# Altium integrated library Diodes - TVS.IntLib: 5379 symbols (part 36 of 122)
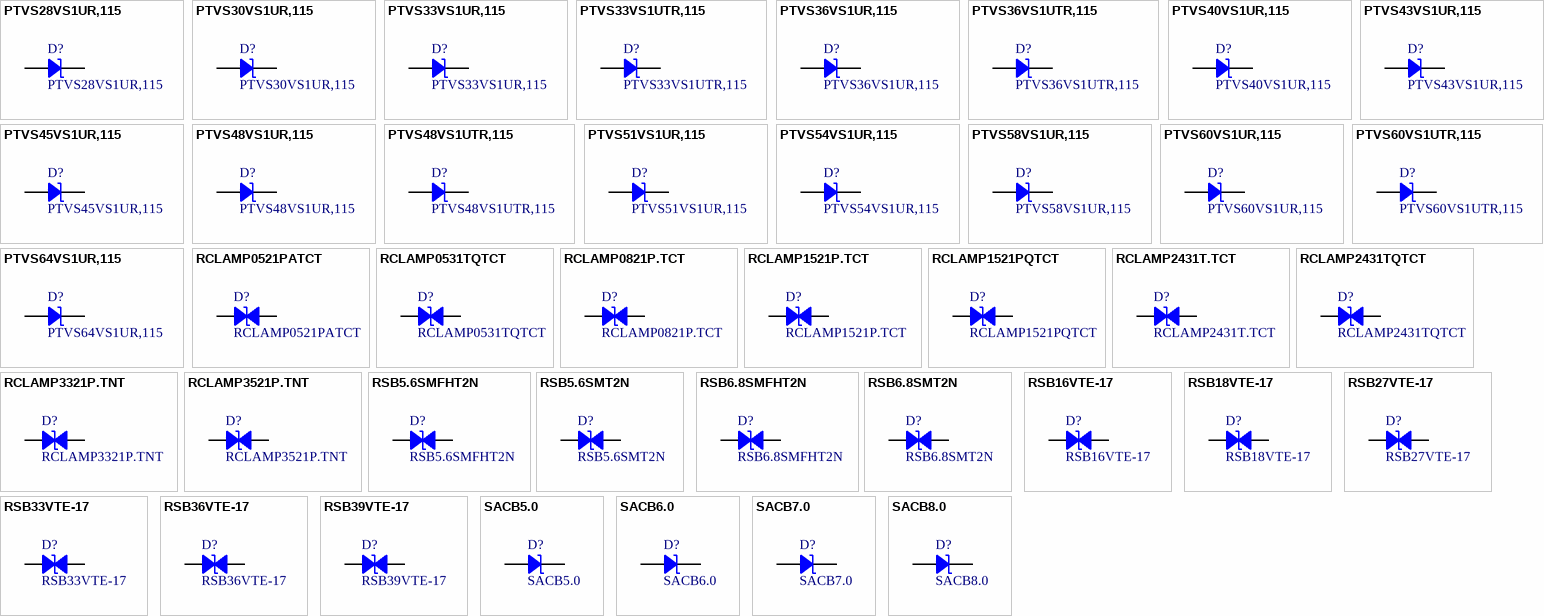
[diagram p169: symbols PTVS28VS1UR,115 to SACB8.0]

## RSB36VTE-17
designator D?
TVS DIODE 27V UMD2; Manufacturer: Rohm Semiconductor; Bidirectional Channels: 1; Capacitance @ Frequency: 30pF @ 1MHz; Power Line Protection: No; Type: Zener; Voltage - Breakdown (Min): 32.4V; Part Number: RSB36VTE-17; Applications: General Purpose; ComponentLink1Description: Datasheet; ComponentLink1URL: http://rohmfs.rohm.com/en/products/databook/datasheet/discrete/diode/zener/rsb36v.pdf; ComponentLink2Description: DigiKey Link; ComponentLink2URL: http://digikey.com/product-detail/en/rohm-semiconductor/RSB36VTE-17/RSB36VTE-17TR-ND/3443619; LastUpdated: 9/2/2020 1:28:42 AM; Lifecycle Status: Active; Minimum Order: 0; Mounting Type: Surface Mount; Package / Case: SC-90, SOD-323F; Packaging: TapeAndReel; PartId: 10363; Part Status: Active; Price: 0.10; Series: -; Supplier 1: DigiKey; Supplier Part Number 1: RSB36VTE-17TR-ND; Supplier Device Package: UMD2; Voltage - Reverse Standoff (Typ): 27V
footprint SOD323F
pins: 1, 2

## RSB39VTE-17
designator D?
TVS DIODE 30V UMD2; Manufacturer: Rohm Semiconductor; Bidirectional Channels: 1; Capacitance @ Frequency: 30pF @ 1MHz; Power Line Protection: No; Type: Zener; Voltage - Breakdown (Min): 35.1V; Part Number: RSB39VTE-17; Applications: General Purpose; ComponentLink1Description: Datasheet; ComponentLink1URL: http://rohmfs.rohm.com/en/products/databook/datasheet/discrete/diode/zener/rsb39v.pdf; ComponentLink2Description: DigiKey Link; ComponentLink2URL: http://digikey.com/product-detail/en/rohm-semiconductor/RSB39VTE-17/RSB39VTE-17TR-ND/3443620; LastUpdated: 9/2/2020 1:28:42 AM; Lifecycle Status: Active; Minimum Order: 0; Mounting Type: Surface Mount; Package / Case: SC-90, SOD-323F; Packaging: TapeAndReel; PartId: 10359; Part Status: Active; Price: 0.08; Series: -; Supplier 1: DigiKey; Supplier Part Number 1: RSB39VTE-17TR-ND; Supplier Device Package: UMD2; Voltage - Reverse Standoff (Typ): 30V
footprint SOD323F
pins: 1, 2

## SACB5.0
designator D?
TVS DIODE 5V 10V SMB; Manufacturer: Littelfuse Inc.; Current - Peak Pulse (10/1000µs): 44A; Power Line Protection: No; Power - Peak Pulse: 500W; Type: Zener; Unidirectional Channels: 1; Voltage - Breakdown (Min): 7.6V; Part Number: SACB5.0; Applications: General Purpose; ComponentLink1Description: Datasheet; ComponentLink1URL: https://www.littelfuse.com/~/media/electronics/datasheets/tvs_diodes/littelfuse_tvs_diode_sacb_datasheet.pdf.pdf; ComponentLink2Description: DigiKey Link; ComponentLink2URL: http://digikey.com/product-detail/en/littelfuse-inc/SACB5.0/SACB5.0CT-ND/1835351; LastUpdated: 9/2/2020 1:19:43 AM; Lifecycle Status: Active; Minimum Order: 1; Mounting Type: Surface Mount; Operating Temperature: -55°C ~ 150°C (TJ); Package / Case: DO-214AA, SMB; Packaging: TapeAndReel; PartId: 10519; Part Status: Active; Price: 0.24; Series: SACB; Supplier 1: DigiKey; Supplier Part Number 1: SACB5.0CT-ND; Supplier Device Package: SMB; Voltage - Clamping (Max) @ Ipp: 10V; Voltage - Reverse Standoff (Typ): 5V
footprint DO214AA SMB
pins: 1, 2

## SACB6.0
designator D?
TVS DIODE 6V 11.2V SMB; Manufacturer: Littelfuse Inc.; Current - Peak Pulse (10/1000µs): 41A; Power Line Protection: No; Power - Peak Pulse: 500W; Type: Zener; Unidirectional Channels: 1; Voltage - Breakdown (Min): 7.9V; Part Number: SACB6.0; Applications: General Purpose; ComponentLink1Description: Datasheet; ComponentLink1URL: https://www.littelfuse.com/~/media/electronics/datasheets/tvs_diodes/littelfuse_tvs_diode_sacb_datasheet.pdf.pdf; ComponentLink2Description: DigiKey Link; ComponentLink2URL: http://digikey.com/product-detail/en/littelfuse-inc/SACB6.0/SACB6.0CT-ND/2699865; LastUpdated: 9/2/2020 1:19:43 AM; Lifecycle Status: Active; Minimum Order: 1; Mounting Type: Surface Mount; Operating Temperature: -55°C ~ 150°C (TJ); Package / Case: DO-214AA, SMB; Packaging: TapeAndReel; PartId: 10521; Part Status: Active; Price: 0.24; Series: SACB; Supplier 1: DigiKey; Supplier Part Number 1: SACB6.0CT-ND; Supplier Device Package: SMB; Voltage - Clamping (Max) @ Ipp: 11.2V; Voltage - Reverse Standoff (Typ): 6V
footprint DO214AA SMB
pins: 1, 2

## SACB7.0
designator D?
TVS DIODE 7V 12.6V SMB; Manufacturer: Littelfuse Inc.; Current - Peak Pulse (10/1000µs): 38A; Power Line Protection: No; Power - Peak Pulse: 500W; Type: Zener; Unidirectional Channels: 1; Voltage - Breakdown (Min): 8.33V; Part Number: SACB7.0; Applications: General Purpose; ComponentLink1Description: Datasheet; ComponentLink1URL: https://www.littelfuse.com/~/media/electronics/datasheets/tvs_diodes/littelfuse_tvs_diode_sacb_datasheet.pdf.pdf; ComponentLink2Description: DigiKey Link; ComponentLink2URL: http://digikey.com/product-detail/en/littelfuse-inc/SACB7.0/SACB7.0CT-ND/2699866; LastUpdated: 9/2/2020 1:19:46 AM; Lifecycle Status: Active; Minimum Order: 1; Mounting Type: Surface Mount; Operating Temperature: -55°C ~ 150°C (TJ); Package / Case: DO-214AA, SMB; Packaging: TapeAndReel; PartId: 10823; Part Status: Active; Price: 0.24; Series: SACB; Supplier 1: DigiKey; Supplier Part Number 1: SACB7.0CT-ND; Supplier Device Package: SMB; Voltage - Clamping (Max) @ Ipp: 12.6V; Voltage - Reverse Standoff (Typ): 7V
footprint DO214AA SMB
pins: 1, 2

## SACB8.0
designator D?
TVS DIODE 8V 13.4V DO214AA; Manufacturer: Littelfuse Inc.; Current - Peak Pulse (10/1000µs): 36A; Power Line Protection: No; Power - Peak Pulse: 500W; Type: Zener; Unidirectional Channels: 1; Voltage - Breakdown (Min): 8.89V; Part Number: SACB8.0; Applications: General Purpose; ComponentLink1Description: Datasheet; ComponentLink1URL: https://www.littelfuse.com/~/media/electronics/datasheets/tvs_diodes/littelfuse_tvs_diode_sacb_datasheet.pdf.pdf; ComponentLink2Description: DigiKey Link; ComponentLink2URL: http://digikey.com/product-detail/en/littelfuse-inc/SACB8.0/1294-SACB8.0-CHP/5731810; LastUpdated: 9/2/2020 1:19:49 AM; Lifecycle Status: Active; Minimum Order: 3000; Mounting Type: Surface Mount; Operating Temperature: -55°C ~ 150°C (TJ); Package / Case: DO-214AA, SMB; Packaging: TapeAndReel; PartId: 11154; Part Status: Active; Price: 0.18; Series: SACB; Supplier 1: DigiKey; Supplier Part Number 1: 1294-SACB8.0-CHP; Supplier Device Package: DO-214AA (SMBJ); Voltage - Clamping (Max) @ Ipp: 13.4V; Voltage - Reverse Standoff (Typ): 8V
footprint DO214AA SMB
pins: 1, 2

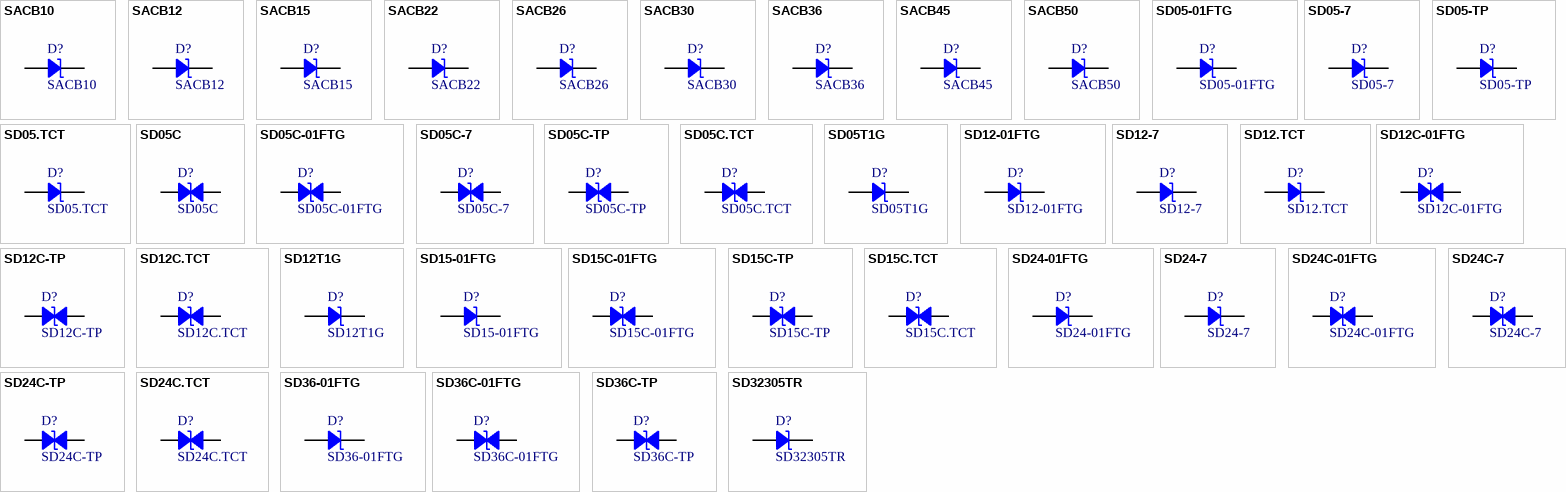
[diagram p39: symbols SACB10 to SD32305TR]

## SACB10
designator D?
TVS DIODE 10V 16.3V SMB; Manufacturer: Littelfuse Inc.; Current - Peak Pulse (10/1000µs): 29A; Power Line Protection: No; Power - Peak Pulse: 500W; Type: Zener; Unidirectional Channels: 1; Voltage - Breakdown (Min): 11.1V; Part Number: SACB10; Applications: General Purpose; ComponentLink1Description: Datasheet; ComponentLink1URL: https://www.littelfuse.com/~/media/electronics/datasheets/tvs_diodes/littelfuse_tvs_diode_sacb_datasheet.pdf.pdf; ComponentLink2Description: DigiKey Link; ComponentLink2URL: http://digikey.com/product-detail/en/littelfuse-inc/SACB10/SACB10CT-ND/2699857; LastUpdated: 9/2/2020 1:19:45 AM; Lifecycle Status: Active; Minimum Order: 1; Mounting Type: Surface Mount; Operating Temperature: -55°C ~ 150°C (TJ); Package / Case: DO-214AA, SMB; Packaging: TapeAndReel; PartId: 10730; Part Status: Active; Price: 0.18; Series: SACB; Supplier 1: DigiKey; Supplier Part Number 1: SACB10CT-ND; Supplier Device Package: SMB; Voltage - Clamping (Max) @ Ipp: 16.3V; Voltage - Reverse Standoff (Typ): 10V
footprint DO214AA SMB
pins: 1, 2

## SACB12
designator D?
TVS DIODE 12V 19V SMB; Manufacturer: Littelfuse Inc.; Current - Peak Pulse (10/1000µs): 25A; Power Line Protection: No; Power - Peak Pulse: 500W; Type: Zener; Unidirectional Channels: 1; Voltage - Breakdown (Min): 13.3V; Part Number: SACB12; Applications: General Purpose; ComponentLink1Description: Datasheet; ComponentLink1URL: https://www.littelfuse.com/~/media/electronics/datasheets/tvs_diodes/littelfuse_tvs_diode_sacb_datasheet.pdf.pdf; ComponentLink2Description: DigiKey Link; ComponentLink2URL: http://digikey.com/product-detail/en/littelfuse-inc/SACB12/SACB12CT-ND/1835352; LastUpdated: 9/2/2020 1:19:47 AM; Lifecycle Status: Active; Minimum Order: 1; Mounting Type: Surface Mount; Operating Temperature: -55°C ~ 150°C (TJ); Package / Case: DO-214AA, SMB; Packaging: TapeAndReel; PartId: 10900; Part Status: Active; Price: 0.24; Series: SACB; Supplier 1: DigiKey; Supplier Part Number 1: SACB12CT-ND; Supplier Device Package: SMB; Voltage - Clamping (Max) @ Ipp: 19V; Voltage - Reverse Standoff (Typ): 12V
footprint DO214AA SMB
pins: 1, 2

## SACB15
designator D?
TVS DIODE 15V 23.6V SMB; Manufacturer: Littelfuse Inc.; Current - Peak Pulse (10/1000µs): 20A; Power Line Protection: No; Power - Peak Pulse: 500W; Type: Zener; Unidirectional Channels: 1; Voltage - Breakdown (Min): 16.7V; Part Number: SACB15; Applications: General Purpose; ComponentLink1Description: Datasheet; ComponentLink1URL: https://www.littelfuse.com/~/media/electronics/datasheets/tvs_diodes/littelfuse_tvs_diode_sacb_datasheet.pdf.pdf; ComponentLink2Description: DigiKey Link; ComponentLink2URL: http://digikey.com/product-detail/en/littelfuse-inc/SACB15/SACB15CT-ND/2699858; LastUpdated: 9/2/2020 1:19:51 AM; Lifecycle Status: Active; Minimum Order: 1; Mounting Type: Surface Mount; Operating Temperature: -55°C ~ 150°C (TJ); Package / Case: DO-214AA, SMB; Packaging: TapeAndReel; PartId: 11310; Part Status: Active; Price: 0.24; Series: SACB; Supplier 1: DigiKey; Supplier Part Number 1: SACB15CT-ND; Supplier Device Package: SMB; Voltage - Clamping (Max) @ Ipp: 23.6V; Voltage - Reverse Standoff (Typ): 15V
footprint DO214AA SMB
pins: 1, 2

## SACB22
designator D?
TVS DIODE 22V 35.4V SMB; Manufacturer: Littelfuse Inc.; Current - Peak Pulse (10/1000µs): 14A; Power Line Protection: No; Power - Peak Pulse: 500W; Type: Zener; Unidirectional Channels: 1; Voltage - Breakdown (Min): 24.4V; Part Number: SACB22; Applications: General Purpose; ComponentLink1Description: Datasheet; ComponentLink1URL: https://www.littelfuse.com/~/media/electronics/datasheets/tvs_diodes/littelfuse_tvs_diode_sacb_datasheet.pdf.pdf; ComponentLink2Description: DigiKey Link; ComponentLink2URL: http://digikey.com/product-detail/en/littelfuse-inc/SACB22/SACB22CT-ND/2699859; LastUpdated: 9/2/2020 1:19:43 AM; Lifecycle Status: Active; Minimum Order: 1; Mounting Type: Surface Mount; Operating Temperature: -55°C ~ 150°C (TJ); Package / Case: DO-214AA, SMB; Packaging: TapeAndReel; PartId: 10518; Part Status: Active; Price: 0.24; Series: SACB; Supplier 1: DigiKey; Supplier Part Number 1: SACB22CT-ND; Supplier Device Package: SMB; Voltage - Clamping (Max) @ Ipp: 35.4V; Voltage - Reverse Standoff (Typ): 22V
footprint DO214AA SMB
pins: 1, 2

## SACB26
designator D?
TVS DIODE 26V 42.3V SMB; Manufacturer: Littelfuse Inc.; Current - Peak Pulse (10/1000µs): 11.1A; Power Line Protection: No; Power - Peak Pulse: 500W; Type: Zener; Unidirectional Channels: 1; Voltage - Breakdown (Min): 28.9V; Part Number: SACB26; Applications: General Purpose; ComponentLink1Description: Datasheet; ComponentLink1URL: https://www.littelfuse.com/~/media/electronics/datasheets/tvs_diodes/littelfuse_tvs_diode_sacb_datasheet.pdf.pdf; ComponentLink2Description: DigiKey Link; ComponentLink2URL: http://digikey.com/product-detail/en/littelfuse-inc/SACB26/SACB26CT-ND/2699860; LastUpdated: 9/2/2020 1:19:45 AM; Lifecycle Status: Active; Minimum Order: 1; Mounting Type: Surface Mount; Operating Temperature: -55°C ~ 150°C (TJ); Package / Case: DO-214AA, SMB; Packaging: TapeAndReel; PartId: 10729; Part Status: Active; Price: 0.24; Series: SACB; Supplier 1: DigiKey; Supplier Part Number 1: SACB26CT-ND; Supplier Device Package: SMB; Voltage - Clamping (Max) @ Ipp: 42.3V; Voltage - Reverse Standoff (Typ): 26V
footprint DO214AA SMB
pins: 1, 2

## SACB30
designator D?
TVS DIODE 30V 48.6V SMB; Manufacturer: Littelfuse Inc.; Current - Peak Pulse (10/1000µs): 10A; Power Line Protection: No; Power - Peak Pulse: 500W; Type: Zener; Unidirectional Channels: 1; Voltage - Breakdown (Min): 33.3V; Part Number: SACB30; Applications: General Purpose; ComponentLink1Description: Datasheet; ComponentLink1URL: https://www.littelfuse.com/~/media/electronics/datasheets/tvs_diodes/littelfuse_tvs_diode_sacb_datasheet.pdf.pdf; ComponentLink2Description: DigiKey Link; ComponentLink2URL: http://digikey.com/product-detail/en/littelfuse-inc/SACB30/SACB30CT-ND/2699861; LastUpdated: 9/2/2020 1:19:45 AM; Lifecycle Status: Active; Minimum Order: 1; Mounting Type: Surface Mount; Operating Temperature: -55°C ~ 150°C (TJ); Package / Case: DO-214AA, SMB; Packaging: TapeAndReel; PartId: 10731; Part Status: Active; Price: 0.24; Series: SACB; Supplier 1: DigiKey; Supplier Part Number 1: SACB30CT-ND; Supplier Device Package: SMB; Voltage - Clamping (Max) @ Ipp: 48.6V; Voltage - Reverse Standoff (Typ): 30V
footprint DO214AA SMB
pins: 1, 2

## SACB36
designator D?
TVS DIODE 36V 60V SMB; Manufacturer: Littelfuse Inc.; Current - Peak Pulse (10/1000µs): 8.6A; Power Line Protection: No; Power - Peak Pulse: 500W; Type: Zener; Unidirectional Channels: 1; Voltage - Breakdown (Min): 40V; Part Number: SACB36; Applications: General Purpose; ComponentLink1Description: Datasheet; ComponentLink1URL: https://www.littelfuse.com/~/media/electronics/datasheets/tvs_diodes/littelfuse_tvs_diode_sacb_datasheet.pdf.pdf; ComponentLink2Description: DigiKey Link; ComponentLink2URL: http://digikey.com/product-detail/en/littelfuse-inc/SACB36/SACB36CT-ND/2699862; LastUpdated: 9/2/2020 1:19:43 AM; Lifecycle Status: Active; Minimum Order: 1; Mounting Type: Surface Mount; Operating Temperature: -55°C ~ 150°C (TJ); Package / Case: DO-214AA, SMB; Packaging: TapeAndReel; PartId: 10522; Part Status: Active; Price: 0.24; Series: SACB; Supplier 1: DigiKey; Supplier Part Number 1: SACB36CT-ND; Supplier Device Package: SMB; Voltage - Clamping (Max) @ Ipp: 60V; Voltage - Reverse Standoff (Typ): 36V
footprint DO214AA SMB
pins: 1, 2

## SACB45
designator D?
TVS DIODE 45V 77V SMB; Manufacturer: Littelfuse Inc.; Current - Peak Pulse (10/1000µs): 6.8A; Power Line Protection: No; Power - Peak Pulse: 500W; Type: Zener; Unidirectional Channels: 1; Voltage - Breakdown (Min): 50V; Part Number: SACB45; Applications: General Purpose; ComponentLink1Description: Datasheet; ComponentLink1URL: https://www.littelfuse.com/~/media/electronics/datasheets/tvs_diodes/littelfuse_tvs_diode_sacb_datasheet.pdf.pdf; ComponentLink2Description: DigiKey Link; ComponentLink2URL: http://digikey.com/product-detail/en/littelfuse-inc/SACB45/SACB45CT-ND/2699863; LastUpdated: 9/2/2020 1:19:43 AM; Lifecycle Status: Active; Minimum Order: 1; Mounting Type: Surface Mount; Operating Temperature: -55°C ~ 150°C (TJ); Package / Case: DO-214AA, SMB; Packaging: TapeAndReel; PartId: 10523; Part Status: Active; Price: 0.24; Series: SACB; Supplier 1: DigiKey; Supplier Part Number 1: SACB45CT-ND; Supplier Device Package: SMB; Voltage - Clamping (Max) @ Ipp: 77V; Voltage - Reverse Standoff (Typ): 45V
footprint DO214AA SMB
pins: 1, 2

## SACB50
designator D?
TVS DIODE 50V 88V SMB; Manufacturer: Littelfuse Inc.; Current - Peak Pulse (10/1000µs): 5.8A; Power Line Protection: No; Power - Peak Pulse: 500W; Type: Zener; Unidirectional Channels: 1; Voltage - Breakdown (Min): 55.5V; Part Number: SACB50; Applications: General Purpose; ComponentLink1Description: Datasheet; ComponentLink1URL: https://www.littelfuse.com/~/media/electronics/datasheets/tvs_diodes/littelfuse_tvs_diode_sacb_datasheet.pdf.pdf; ComponentLink2Description: DigiKey Link; ComponentLink2URL: http://digikey.com/product-detail/en/littelfuse-inc/SACB50/SACB50CT-ND/2699864; LastUpdated: 9/2/2020 1:19:43 AM; Lifecycle Status: Active; Minimum Order: 1; Mounting Type: Surface Mount; Operating Temperature: -55°C ~ 150°C (TJ); Package / Case: DO-214AA, SMB; Packaging: TapeAndReel; PartId: 10520; Part Status: Active; Price: 0.24; Series: SACB; Supplier 1: DigiKey; Supplier Part Number 1: SACB50CT-ND; Supplier Device Package: SMB; Voltage - Clamping (Max) @ Ipp: 88V; Voltage - Reverse Standoff (Typ): 50V
footprint DO214AA SMB
pins: 1, 2

## SD05-01FTG
designator D?
TVS DIODE 5V 16.8V SOD323; Manufacturer: Littelfuse Inc.; Capacitance @ Frequency: 350pF @ 1MHz; Current - Peak Pulse (10/1000µs): 30A (8/20µs); Power Line Protection: No; Power - Peak Pulse: 450W; Type: Zener; Unidirectional Channels: 1; Voltage - Reverse Standoff (Typ): 5V (Max); Part Number: SD05-01FTG; Applications: General Purpose; ComponentLink1Description: Datasheet; ComponentLink1URL: https://www.littelfuse.com/~/media/electronics/datasheets/tvs_diode_arrays/littelfuse_tvs_diode_array_sd_datasheet.pdf.pdf; ComponentLink2Description: DigiKey Link; ComponentLink2URL: http://digikey.com/product-detail/en/littelfuse-inc/SD05-01FTG/F6190CT-ND/4251859; LastUpdated: 9/2/2020 1:28:27 AM; Lifecycle Status: Active; Minimum Order: 1; Mounting Type: Surface Mount; Operating Temperature: -40°C ~ 125°C (TJ); Package / Case: SC-76, SOD-323; Packaging: TapeAndReel; PartId: 9911; Part Status: Active; Price: 0.11; Series: SD, SPA®; Supplier 1: DigiKey; Supplier Part Number 1: F6190CT-ND; Supplier Device Package: SOD-323; Voltage - Clamping (Max) @ Ipp: 16.8V
footprint SOD323
pins: 1, 2

## SD05-7
designator D?
TVS DIODE 5V 14.5V SOD323; Manufacturer: Diodes Incorporated; Capacitance @ Frequency: 350pF @ 1MHz; Current - Peak Pulse (10/1000µs): 24A (8/20µs); Power Line Protection: No; Power - Peak Pulse: 350W; Type: Zener; Unidirectional Channels: 1; Voltage - Breakdown (Min): 6.2V; Part Number: SD05-7; Applications: Automotive; ComponentLink1Description: Datasheet; ComponentLink1URL: https://www.diodes.com/assets/Datasheets/ds31594.pdf; ComponentLink2Description: DigiKey Link; ComponentLink2URL: http://digikey.com/product-detail/en/diodes-incorporated/SD05-7/SD05DICT-ND/2052820; LastUpdated: 9/2/2020 1:28:27 AM; Lifecycle Status: Active; Minimum Order: 1; Mounting Type: Surface Mount; Operating Temperature: -55°C ~ 150°C (TJ); Package / Case: SC-76, SOD-323; Packaging: TapeAndReel; PartId: 9859; Part Status: Active; Price: 0.07; Series: Automotive, AEC-Q101; Supplier 1: DigiKey; Supplier Part Number 1: SD05DICT-ND; Supplier Device Package: SOD-323; Voltage - Clamping (Max) @ Ipp: 14.5V; Voltage - Reverse Standoff (Typ): 5V
footprint SOD323
pins: 1, 2

## SD05-TP
designator D?
5V,ESD PROTECTION DEVICES,SOD-32; Manufacturer: Micro Commercial Co; Capacitance @ Frequency: 350pF @ 1MHz; Current - Peak Pulse (10/1000µs): 40A (8/20µs); Power Line Protection: No; Power - Peak Pulse: 500W; Type: Zener; Unidirectional Channels: 1; Voltage - Breakdown (Min): 6V; Voltage - Clamping (Max) @ Ipp: 12.5V; Voltage - Reverse Standoff (Typ): 5V (Max); Part Number: SD05-TP; Applications: General Purpose; ComponentLink1Description: Datasheet; ComponentLink1URL: https://www.mccsemi.com/pdf/Products/SD05(SOD-323)-B.pdf; ComponentLink2Description: DigiKey Link; ComponentLink2URL: http://digikey.com/product-detail/en/micro-commercial-co/SD05-TP/SD05-TPMSCT-ND/8554545; LastUpdated: 9/2/2020 1:28:27 AM; Lifecycle Status: Active; Minimum Order: 1; Mounting Type: Surface Mount; Operating Temperature: -55°C ~ 150°C (TJ); Package / Case: SC-76, SOD-323; Packaging: TapeAndReel; PartId: 9899; Part Status: Active; Price: 0.08; Series: -; Supplier 1: DigiKey; Supplier Part Number 1: SD05-TPMSCT-ND; Supplier Device Package: SOD-323
footprint SOD323
pins: 1, 2

## SD05.TCT
designator D?
TVS DIODE 5V 14.5V SOD323; Manufacturer: Semtech Corporation; Capacitance @ Frequency: 350pF @ 1MHz; Current - Peak Pulse (10/1000µs): 24A (8/20µs); Power Line Protection: No; Power - Peak Pulse: 350W; Type: Zener; Unidirectional Channels: 1; Voltage - Breakdown (Min): 6V; Voltage - Reverse Standoff (Typ): 5V (Max); Part Number: SD05.TCT; Applications: General Purpose; ComponentLink1Description: Datasheet; ComponentLink1URL: https://www.semtech.com/uploads/documents/sdxx.pdf; ComponentLink2Description: DigiKey Link; ComponentLink2URL: http://digikey.com/product-detail/en/semtech-corporation/SD05.TCT/SD05CT-ND/1000965; LastUpdated: 9/2/2020 1:28:26 AM; Lifecycle Status: Active; Minimum Order: 1; Mounting Type: Surface Mount; Operating Temperature: -55°C ~ 125°C (TJ); Package / Case: SC-76, SOD-323; Packaging: TapeAndReel; PartId: 9839; Part Status: Active; Price: 0.27; Series: -; Supplier 1: DigiKey; Supplier Part Number 1: SD05CT-ND; Supplier Device Package: SOD-323; Voltage - Clamping (Max) @ Ipp: 14.5V
footprint SOD323
pins: 1, 2

## SD05C
designator D?
ESD PROTECTION DIODE SOD-323; Manufacturer: Rectron USA; Bidirectional Channels: 1; Capacitance @ Frequency: 200pF @ 1MHz (Max); Current - Peak Pulse (10/1000µs): 24A (8/20µs); Power Line Protection: No; Power - Peak Pulse: 350W; Type: Zener; Voltage - Breakdown (Min): 6V; Voltage - Clamping (Max) @ Ipp: 14.5V; Voltage - Reverse Standoff (Typ): 5V (Max); Part Number: SD05C; Applications: General Purpose; ComponentLink1Description: Datasheet; ComponentLink1URL: https://www.rectron.com/public/product_datasheets/sd05c-sd24c.pdf; ComponentLink2Description: DigiKey Link; ComponentLink2URL: http://digikey.com/product-detail/en/rectron-usa/SD05C/2516-SD05CTR-ND/12088393; LastUpdated: 8/30/2020 9:07:52 PM; Lifecycle Status: Active; Minimum Order: 3000; Mounting Type: Surface Mount; Package / Case: SC-76, SOD-323; Packaging: TapeAndReel; PartId: 11460; Price: 0.04; Supplier 1: DigiKey; Supplier Part Number 1: 2516-SD05CTR-ND; Supplier Device Package: SOD-323
footprint SOD323
pins: 1, 2

## SD05C-01FTG
designator D?
TVS DIODE 5V 18V SOD323; Manufacturer: Littelfuse Inc.; Bidirectional Channels: 1; Capacitance @ Frequency: 200pF @ 1MHz; Current - Peak Pulse (10/1000µs): 30A (8/20µs); Power Line Protection: No; Power - Peak Pulse: 450W; Type: Zener; Voltage - Reverse Standoff (Typ): 5V (Max); Part Number: SD05C-01FTG; Applications: General Purpose; ComponentLink1Description: Datasheet; ComponentLink1URL: https://www.littelfuse.com/~/media/electronics/datasheets/tvs_diode_arrays/littelfuse_tvs_diode_array_sd_c_datasheet.pdf.pdf; ComponentLink2Description: DigiKey Link; ComponentLink2URL: http://digikey.com/product-detail/en/littelfuse-inc/SD05C-01FTG/F6191CT-ND/4251860; LastUpdated: 9/2/2020 1:28:29 AM; Lifecycle Status: Active; Minimum Order: 1; Mounting Type: Surface Mount; Operating Temperature: -40°C ~ 125°C (TJ); Package / Case: SC-76, SOD-323; Packaging: TapeAndReel; PartId: 9966; Part Status: Active; Price: 0.12; Series: SD-C, SPA®; Supplier 1: DigiKey; Supplier Part Number 1: F6191CT-ND; Supplier Device Package: SOD-323; Voltage - Clamping (Max) @ Ipp: 18V
footprint SOD323
pins: 1, 2

## SD05C-7
designator D?
TVS DIODE 5.5V 16V SOD323; Manufacturer: Diodes Incorporated; Bidirectional Channels: 1; Capacitance @ Frequency: 200pF @ 1MHz; Current - Peak Pulse (10/1000µs): 40A (8/20µs); Power Line Protection: No; Power - Peak Pulse: 640W; Type: Zener; Voltage - Breakdown (Min): 6V; Voltage - Reverse Standoff (Typ): 5.5V (Max); Part Number: SD05C-7; ComponentLink1Description: Datasheet; ComponentLink1URL: https://www.diodes.com/assets/Datasheets/SD05C.pdf; ComponentLink2Description: DigiKey Link; ComponentLink2URL: http://digikey.com/product-detail/en/diodes-incorporated/SD05C-7/31-SD05C-7CT-ND/11643329; LastUpdated: 8/30/2020 9:07:52 PM; Lifecycle Status: Active; Minimum Order: 1; Mounting Type: Surface Mount; Operating Temperature: -65°C ~ 150°C (TJ); Package / Case: SC-76, SOD-323; Packaging: CutTape; PartId: 11493; Price: 0.42; Supplier 1: DigiKey; Supplier Part Number 1: 31-SD05C-7CT-ND; Supplier Device Package: SOD-323; Voltage - Clamping (Max) @ Ipp: 16V
footprint SOD323
pins: 1, 2

## SD05C-TP
designator D?
5V,ESD PROTECTION DEVICES,SOD-32; Manufacturer: Micro Commercial Co; Bidirectional Channels: 1; Capacitance @ Frequency: 125pF @ 1MHz; Current - Peak Pulse (10/1000µs): 24A (8/20µs); Power Line Protection: No; Power - Peak Pulse: 350W; Type: Zener; Voltage - Breakdown (Min): 6V; Voltage - Clamping (Max) @ Ipp: 13.5V; Voltage - Reverse Standoff (Typ): 5V (Max); Part Number: SD05C-TP; Applications: General Purpose; ComponentLink1Description: Datasheet; ComponentLink1URL: https://www.mccsemi.com/pdf/Products/SD05C(SOD-323)-C.pdf; ComponentLink2Description: DigiKey Link; ComponentLink2URL: http://digikey.com/product-detail/en/micro-commercial-co/SD05C-TP/SD05C-TPMSCT-ND/8554544; LastUpdated: 9/2/2020 1:28:29 AM; Lifecycle Status: Active; Minimum Order: 1; Mounting Type: Surface Mount; Operating Temperature: -55°C ~ 150°C (TJ); Package / Case: SC-76, SOD-323; Packaging: TapeAndReel; PartId: 9978; Part Status: Active; Price: 0.08; Series: -; Supplier 1: DigiKey; Supplier Part Number 1: SD05C-TPMSCT-ND; Supplier Device Package: SOD-323
footprint SOD323
pins: 1, 2

## SD05C.TCT
designator D?
TVS DIODE 5V 14.5V SOD323; Manufacturer: Semtech Corporation; Bidirectional Channels: 1; Capacitance @ Frequency: 200pF @ 1MHz; Current - Peak Pulse (10/1000µs): 24A (8/20µs); Power Line Protection: No; Power - Peak Pulse: 350W; Type: Zener; Voltage - Breakdown (Min): 6V; Voltage - Reverse Standoff (Typ): 5V (Max); Part Number: SD05C.TCT; Applications: General Purpose; ComponentLink1Description: Datasheet; ComponentLink1URL: https://www.semtech.com/uploads/documents/sdxxc.pdf; ComponentLink2Description: DigiKey Link; ComponentLink2URL: http://digikey.com/product-detail/en/semtech-corporation/SD05C.TCT/SD05CCT-ND/1000966; LastUpdated: 9/2/2020 1:28:28 AM; Lifecycle Status: Active; Minimum Order: 1; Mounting Type: Surface Mount; Operating Temperature: -55°C ~ 125°C (TJ); Package / Case: SC-76, SOD-323; Packaging: TapeAndReel; PartId: 9914; Part Status: Active; Price: 0.36; Series: -; Supplier 1: DigiKey; Supplier Part Number 1: SD05CCT-ND; Supplier Device Package: SOD-323; Voltage - Clamping (Max) @ Ipp: 14.5V
footprint SOD323
pins: 1, 2

## SD05T1G
designator D?
TVS DIODE 5V 9.8V SOD323; Manufacturer: ON Semiconductor; Capacitance @ Frequency: 350pF @ 1MHz; Current - Peak Pulse (10/1000µs): 24A (8/20µs); Power Line Protection: No; Power - Peak Pulse: 350W; Type: Zener; Unidirectional Channels: 1; Voltage - Breakdown (Min): 6.2V; Part Number: SD05T1G; Applications: Automotive; ComponentLink1Description: Datasheet; ComponentLink1URL: https://www.onsemi.com/pub/Collateral/SD05T1-D.PDF; ComponentLink2Description: DigiKey Link; ComponentLink2URL: http://digikey.com/product-detail/en/on-semiconductor/SD05T1G/SD05T1GOSCT-ND/964630; LastUpdated: 9/2/2020 1:28:27 AM; Lifecycle Status: Active; Minimum Order: 1; Mounting Type: Surface Mount; Operating Temperature: -55°C ~ 150°C (TJ); Package / Case: SC-76, SOD-323; Packaging: TapeAndReel; PartId: 9858; Part Status: Active; Price: 0.07; Series: Automotive, AEC-Q101; Supplier 1: DigiKey; Supplier Part Number 1: SD05T1GOSCT-ND; Supplier Device Package: SOD-323; Voltage - Clamping (Max) @ Ipp: 9.8V; Voltage - Reverse Standoff (Typ): 5V
footprint SOD323
pins: 1, 2

## SD12-01FTG
designator D?
TVS DIODE 12V 22.5V SOD323; Manufacturer: Littelfuse Inc.; Capacitance @ Frequency: 150pF @ 1MHz; Current - Peak Pulse (10/1000µs): 17A (8/20µs); Power Line Protection: No; Power - Peak Pulse: 450W; Type: Zener; Unidirectional Channels: 1; Voltage - Reverse Standoff (Typ): 12V (Max); Part Number: SD12-01FTG; Applications: General Purpose; ComponentLink1Description: Datasheet; ComponentLink1URL: https://www.littelfuse.com/~/media/electronics/datasheets/tvs_diode_arrays/littelfuse_tvs_diode_array_sd_datasheet.pdf.pdf; ComponentLink2Description: DigiKey Link; ComponentLink2URL: http://digikey.com/product-detail/en/littelfuse-inc/SD12-01FTG/F6441CT-ND/5019592; LastUpdated: 9/2/2020 1:28:27 AM; Lifecycle Status: Active; Minimum Order: 1; Mounting Type: Surface Mount; Operating Temperature: -40°C ~ 125°C (TJ); Package / Case: SC-76, SOD-323; Packaging: TapeAndReel; PartId: 9875; Part Status: Active; Price: 0.11; Series: SD, SPA®; Supplier 1: DigiKey; Supplier Part Number 1: F6441CT-ND; Supplier Device Package: SOD-323; Voltage - Clamping (Max) @ Ipp: 22.5V
footprint SOD323
pins: 1, 2

## SD12-7
designator D?
TVS DIODE 12V 25V SOD323; Manufacturer: Diodes Incorporated; Capacitance @ Frequency: 150pF @ 1MHz; Current - Peak Pulse (10/1000µs): 15A (8/20µs); Power Line Protection: No; Power - Peak Pulse: 350W; Type: Zener; Unidirectional Channels: 1; Voltage - Breakdown (Min): 13.3V; Voltage - Reverse Standoff (Typ): 12V (Max); Part Number: SD12-7; Applications: General Purpose; ComponentLink1Description: Datasheet; ComponentLink1URL: https://www.diodes.com/assets/Datasheets/ds31772.pdf; ComponentLink2Description: DigiKey Link; ComponentLink2URL: http://digikey.com/product-detail/en/diodes-incorporated/SD12-7/SD12-7DICT-ND/5030159; LastUpdated: 9/2/2020 1:28:26 AM; Lifecycle Status: Active; Minimum Order: 1; Mounting Type: Surface Mount; Operating Temperature: -55°C ~ 150°C (TJ); Package / Case: SC-76, SOD-323; Packaging: TapeAndReel; PartId: 9842; Part Status: Active; Price: 0.07; Series: -; Supplier 1: DigiKey; Supplier Part Number 1: SD12-7DICT-ND; Supplier Device Package: SOD-323; Voltage - Clamping (Max) @ Ipp: 25V
footprint SOD323
pins: 1, 2

## SD12.TCT
designator D?
TVS DIODE 12V 25V SOD323; Manufacturer: Semtech Corporation; Capacitance @ Frequency: 150pF @ 1MHz; Current - Peak Pulse (10/1000µs): 15A (8/20µs); Power Line Protection: No; Power - Peak Pulse: 350W; Type: Zener; Unidirectional Channels: 1; Voltage - Breakdown (Min): 13.3V; Voltage - Reverse Standoff (Typ): 12V (Max); Part Number: SD12.TCT; Applications: General Purpose; ComponentLink1Description: Datasheet; ComponentLink1URL: https://www.semtech.com/uploads/documents/sdxx.pdf; ComponentLink2Description: DigiKey Link; ComponentLink2URL: http://digikey.com/product-detail/en/semtech-corporation/SD12.TCT/SD12.TCTCT-ND/5113731; LastUpdated: 9/2/2020 1:28:26 AM; Lifecycle Status: Active; Minimum Order: 1; Mounting Type: Surface Mount; Operating Temperature: -55°C ~ 125°C (TJ); Package / Case: SC-76, SOD-323; Packaging: TapeAndReel; PartId: 9851; Part Status: Active; Price: 0.33; Series: -; Supplier 1: DigiKey; Supplier Part Number 1: SD12.TCTCT-ND; Supplier Device Package: SOD-323; Voltage - Clamping (Max) @ Ipp: 25V
footprint SOD323
pins: 1, 2

## SD12C-01FTG
designator D?
TVS DIODE 12V 23V SOD323; Manufacturer: Littelfuse Inc.; Bidirectional Channels: 1; Capacitance @ Frequency: 100pF @ 1MHz; Current - Peak Pulse (10/1000µs): 17A (8/20µs); Power Line Protection: No; Power - Peak Pulse: 450W; Type: Zener; Voltage - Reverse Standoff (Typ): 12V (Max); Part Number: SD12C-01FTG; Applications: Automotive; ComponentLink1Description: Datasheet; ComponentLink1URL: https://www.littelfuse.com/~/media/electronics/datasheets/tvs_diode_arrays/littelfuse_tvs_diode_array_sd_c_datasheet.pdf.pdf; ComponentLink2Description: DigiKey Link; ComponentLink2URL: http://digikey.com/product-detail/en/littelfuse-inc/SD12C-01FTG/F6442CT-ND/5019594; LastUpdated: 9/2/2020 1:28:29 AM; Lifecycle Status: Active; Minimum Order: 1; Mounting Type: Surface Mount; Operating Temperature: -40°C ~ 125°C (TJ); Package / Case: SC-76, SOD-323; Packaging: TapeAndReel; PartId: 9965; Part Status: Active; Price: 0.12; Series: Automotive, AEC-Q101, SD-C, SPA®; Supplier 1: DigiKey; Supplier Part Number 1: F6442CT-ND; Supplier Device Package: SOD-323; Voltage - Clamping (Max) @ Ipp: 23V
footprint SOD323
pins: 1, 2

## SD12C-TP
designator D?
12V, ESD PROTECTION DEVICES, SOD; Manufacturer: Micro Commercial Co; Bidirectional Channels: 1; Capacitance @ Frequency: 100pF @ 1MHz (Max); Current - Peak Pulse (10/1000µs): 18A (8/20µs); Power Line Protection: No; Power - Peak Pulse: 500W; Type: Zener; Voltage - Breakdown (Min): 13.3V; Voltage - Clamping (Max) @ Ipp: 28V; Voltage - Reverse Standoff (Typ): 12V (Max); Part Number: SD12C-TP; Applications: General Purpose; ComponentLink2Description: DigiKey Link; ComponentLink2URL: http://digikey.com/product-detail/en/micro-commercial-co/SD12C-TP/353-SD12C-TPCT-ND/12177312; LastUpdated: 8/30/2020 9:07:52 PM; Lifecycle Status: Active; Minimum Order: 1; Mounting Type: Surface Mount; Operating Temperature: -55°C ~ 125°C (TJ); Package / Case: SC-76, SOD-323; Packaging: Unknown; PartId: 11458; Price: 0.07; Supplier 1: DigiKey; Supplier Part Number 1: 353-SD12C-TPCT-ND; Supplier Device Package: SOD-323
footprint SOD323
pins: 1, 2

## SD12C.TCT
designator D?
TVS DIODE 12V 24V SOD323; Manufacturer: Semtech Corporation; Bidirectional Channels: 1; Capacitance @ Frequency: 100pF @ 1MHz; Current - Peak Pulse (10/1000µs): 15A (8/20µs); Power Line Protection: No; Power - Peak Pulse: 350W; Type: Zener; Voltage - Breakdown (Min): 13.3V; Voltage - Reverse Standoff (Typ): 12V (Max); Part Number: SD12C.TCT; Applications: General Purpose; ComponentLink1Description: Datasheet; ComponentLink1URL: https://www.semtech.com/uploads/documents/sdxxc.pdf; ComponentLink2Description: DigiKey Link; ComponentLink2URL: http://digikey.com/product-detail/en/semtech-corporation/SD12C.TCT/SD12C.TCTCT-ND/5113732; LastUpdated: 9/2/2020 1:28:28 AM; Lifecycle Status: Active; Minimum Order: 1; Mounting Type: Surface Mount; Operating Temperature: -55°C ~ 125°C (TJ); Package / Case: SC-76, SOD-323; Packaging: TapeAndReel; PartId: 9916; Part Status: Active; Price: 0.36; Series: -; Supplier 1: DigiKey; Supplier Part Number 1: SD12C.TCTCT-ND; Supplier Device Package: SOD-323; Voltage - Clamping (Max) @ Ipp: 24V
footprint SOD323
pins: 1, 2

## SD12T1G
designator D?
TVS DIODE 12V 19V SOD323; Manufacturer: ON Semiconductor; Capacitance @ Frequency: 150pF @ 1MHz; Current - Peak Pulse (10/1000µs): 15A (8/20µs); Power Line Protection: No; Power - Peak Pulse: 350W; Type: Zener; Unidirectional Channels: 1; Voltage - Breakdown (Min): 13.3V; Part Number: SD12T1G; Applications: Automotive; ComponentLink1Description: Datasheet; ComponentLink1URL: https://www.onsemi.com/pub/Collateral/SD05T1-D.PDF; ComponentLink2Description: DigiKey Link; ComponentLink2URL: http://digikey.com/product-detail/en/on-semiconductor/SD12T1G/SD12T1GOSCT-ND/964631; LastUpdated: 9/2/2020 1:28:27 AM; Lifecycle Status: Active; Minimum Order: 1; Mounting Type: Surface Mount; Operating Temperature: -55°C ~ 150°C (TJ); Package / Case: SC-76, SOD-323; Packaging: TapeAndReel; PartId: 9856; Part Status: Active; Price: 0.08; Series: Automotive, AEC-Q101; Supplier 1: DigiKey; Supplier Part Number 1: SD12T1GOSCT-ND; Supplier Device Package: SOD-323; Voltage - Clamping (Max) @ Ipp: 19V; Voltage - Reverse Standoff (Typ): 12V
footprint SOD323
pins: 1, 2

## SD15-01FTG
designator D?
TVS DIODE 15V 30V SOD323; Manufacturer: Littelfuse Inc.; Capacitance @ Frequency: 100pF @ 1MHz; Current - Peak Pulse (10/1000µs): 12A (8/20µs); Power Line Protection: No; Power - Peak Pulse: 450W; Type: Zener; Unidirectional Channels: 1; Voltage - Reverse Standoff (Typ): 15V (Max); Part Number: SD15-01FTG; Applications: General Purpose; ComponentLink1Description: Datasheet; ComponentLink1URL: https://www.littelfuse.com/~/media/electronics/datasheets/tvs_diode_arrays/littelfuse_tvs_diode_array_sd_datasheet.pdf.pdf; ComponentLink2Description: DigiKey Link; ComponentLink2URL: http://digikey.com/product-detail/en/littelfuse-inc/SD15-01FTG/F6443CT-ND/5019596; LastUpdated: 9/2/2020 1:28:27 AM; Lifecycle Status: Active; Minimum Order: 1; Mounting Type: Surface Mount; Operating Temperature: -40°C ~ 125°C (TJ); Package / Case: SC-76, SOD-323; Packaging: TapeAndReel; PartId: 9874; Part Status: Active; Price: 0.11; Series: SD, SPA®; Supplier 1: DigiKey; Supplier Part Number 1: F6443CT-ND; Supplier Device Package: SOD-323; Voltage - Clamping (Max) @ Ipp: 30V
footprint SOD323
pins: 1, 2

## SD15C-01FTG
designator D?
TVS DIODE 15V 31V SOD323; Manufacturer: Littelfuse Inc.; Bidirectional Channels: 1; Capacitance @ Frequency: 75pF @ 1MHz; Current - Peak Pulse (10/1000µs): 12A (8/20µs); Power Line Protection: No; Power - Peak Pulse: 450W; Type: Zener; Voltage - Reverse Standoff (Typ): 15V (Max); Part Number: SD15C-01FTG; Applications: Automotive; ComponentLink1Description: Datasheet; ComponentLink1URL: https://www.littelfuse.com/~/media/electronics/datasheets/tvs_diode_arrays/littelfuse_tvs_diode_array_sd_c_datasheet.pdf.pdf; ComponentLink2Description: DigiKey Link; ComponentLink2URL: http://digikey.com/product-detail/en/littelfuse-inc/SD15C-01FTG/F6444CT-ND/5019598; LastUpdated: 9/2/2020 1:28:29 AM; Lifecycle Status: Active; Minimum Order: 1; Mounting Type: Surface Mount; Operating Temperature: -40°C ~ 125°C (TJ); Package / Case: SC-76, SOD-323; Packaging: TapeAndReel; PartId: 9989; Part Status: Active; Price: 0.12; Series: Automotive, AEC-Q101, SD-C, SPA®; Supplier 1: DigiKey; Supplier Part Number 1: F6444CT-ND; Supplier Device Package: SOD-323; Voltage - Clamping (Max) @ Ipp: 31V
footprint SOD323
pins: 1, 2

## SD15C-TP
designator D?
ESDPROTECTIONDEVICESSOD-323; Manufacturer: Micro Commercial Co; Bidirectional Channels: 1; Capacitance @ Frequency: 75pF @ 1MHz (Max); Current - Peak Pulse (10/1000µs): 12A (8/20µs); Power Line Protection: No; Power - Peak Pulse: 350W; Type: Zener; Voltage - Breakdown (Min): 16.7V; Voltage - Clamping (Max) @ Ipp: 40V; Voltage - Reverse Standoff (Typ): 15V (Max); Part Number: SD15C-TP; Applications: General Purpose; ComponentLink1Description: Datasheet; ComponentLink1URL: https://www.mccsemi.com/pdf/Products/SD15C~SD24C(SOD-323)-V1.pdf; ComponentLink2Description: DigiKey Link; ComponentLink2URL: http://digikey.com/product-detail/en/micro-commercial-co/SD15C-TP/SD15C-TPMSCT-ND/10054390; LastUpdated: 9/2/2020 1:28:29 AM; Lifecycle Status: Active; Minimum Order: 1; Mounting Type: Surface Mount; Operating Temperature: -55°C ~ 125°C (TJ); Package / Case: SC-76, SOD-323; Packaging: TapeAndReel; PartId: 9982; Part Status: Active; Price: 0.08; Series: -; Supplier 1: DigiKey; Supplier Part Number 1: SD15C-TPMSCT-ND; Supplier Device Package: SOD-323
footprint SOD323
pins: 1, 2

## SD15C.TCT
designator D?
TVS DIODE 15V 29V SOD323; Manufacturer: Semtech Corporation; Bidirectional Channels: 1; Capacitance @ Frequency: 75pF @ 1MHz; Current - Peak Pulse (10/1000µs): 12A (8/20µs); Power Line Protection: No; Power - Peak Pulse: 350W; Type: Zener; Voltage - Breakdown (Min): 16.7V; Voltage - Reverse Standoff (Typ): 15V (Max); Part Number: SD15C.TCT; Applications: General Purpose; ComponentLink1Description: Datasheet; ComponentLink1URL: https://www.semtech.com/uploads/documents/sdxxc.pdf; ComponentLink2Description: DigiKey Link; ComponentLink2URL: http://digikey.com/product-detail/en/semtech-corporation/SD15C.TCT/SD15C.TCTCT-ND/5113733; LastUpdated: 9/2/2020 1:28:28 AM; Lifecycle Status: Active; Minimum Order: 1; Mounting Type: Surface Mount; Operating Temperature: -55°C ~ 125°C (TJ); Package / Case: SC-76, SOD-323; Packaging: TapeAndReel; PartId: 9915; Part Status: Active; Price: 0.36; Series: -; Supplier 1: DigiKey; Supplier Part Number 1: SD15C.TCTCT-ND; Supplier Device Package: SOD-323; Voltage - Clamping (Max) @ Ipp: 29V
footprint SOD323
pins: 1, 2

## SD24-01FTG
designator D?
TVS DIODE 24V 42V SOD323; Manufacturer: Littelfuse Inc.; Capacitance @ Frequency: 65pF @ 1MHz; Current - Peak Pulse (10/1000µs): 7A (8/20µs); Power Line Protection: No; Power - Peak Pulse: 450W; Type: Zener; Unidirectional Channels: 1; Voltage - Reverse Standoff (Typ): 24V (Max); Part Number: SD24-01FTG; Applications: General Purpose; ComponentLink1Description: Datasheet; ComponentLink1URL: https://www.littelfuse.com/~/media/electronics/datasheets/tvs_diode_arrays/littelfuse_tvs_diode_array_sd_datasheet.pdf.pdf; ComponentLink2Description: DigiKey Link; ComponentLink2URL: http://digikey.com/product-detail/en/littelfuse-inc/SD24-01FTG/F6445CT-ND/5019600; LastUpdated: 9/2/2020 1:28:27 AM; Lifecycle Status: Active; Minimum Order: 1; Mounting Type: Surface Mount; Operating Temperature: -40°C ~ 125°C (TJ); Package / Case: SC-76, SOD-323; Packaging: TapeAndReel; PartId: 9912; Part Status: Active; Price: 0.11; Series: SD, SPA®; Supplier 1: DigiKey; Supplier Part Number 1: F6445CT-ND; Supplier Device Package: SOD-323; Voltage - Clamping (Max) @ Ipp: 42V
footprint SOD323
pins: 1, 2

## SD24-7
designator D?
SURGE PROTECTION PP SOD323; Manufacturer: Diodes Incorporated; Capacitance @ Frequency: 80pF @ 1MHz (Max); Current - Peak Pulse (10/1000µs): 8A (8/20µs); Power Line Protection: No; Power - Peak Pulse: 350W; Type: Zener; Unidirectional Channels: 1; Voltage - Breakdown (Min): 26V; Voltage - Clamping (Max) @ Ipp: 44V; Voltage - Reverse Standoff (Typ): 24V (Max); Part Number: SD24-7; Applications: General Purpose; ComponentLink1Description: Datasheet; ComponentLink1URL: https://www.diodes.com/assets/Datasheets/SD24.pdf; ComponentLink2Description: DigiKey Link; ComponentLink2URL: http://digikey.com/product-detail/en/diodes-incorporated/SD24-7/31-SD24-7CT-ND/11643306; LastUpdated: 8/30/2020 9:07:50 PM; Lifecycle Status: Active; Minimum Order: 1; Mounting Type: Surface Mount; Package / Case: SC-76, SOD-323; Packaging: TapeAndReel; PartId: 11455; Price: 0.10; Supplier 1: DigiKey; Supplier Part Number 1: 31-SD24-7CT-ND; Supplier Device Package: SOD-323
footprint SOD323
pins: 1, 2

## SD24C-01FTG
designator D?
TVS DIODE 24V 42V SOD323; Manufacturer: Littelfuse Inc.; Bidirectional Channels: 1; Capacitance @ Frequency: 50pF @ 1MHz; Current - Peak Pulse (10/1000µs): 7A (8/20µs); Power Line Protection: No; Power - Peak Pulse: 450W; Type: Zener; Voltage - Reverse Standoff (Typ): 24V (Max); Part Number: SD24C-01FTG; Applications: Automotive; ComponentLink1Description: Datasheet; ComponentLink1URL: https://www.littelfuse.com/~/media/electronics/datasheets/tvs_diode_arrays/littelfuse_tvs_diode_array_sd_c_datasheet.pdf.pdf; ComponentLink2Description: DigiKey Link; ComponentLink2URL: http://digikey.com/product-detail/en/littelfuse-inc/SD24C-01FTG/F6446CT-ND/5019602; LastUpdated: 9/2/2020 1:28:29 AM; Lifecycle Status: Active; Minimum Order: 1; Mounting Type: Surface Mount; Operating Temperature: -40°C ~ 125°C (TJ); Package / Case: SC-76, SOD-323; Packaging: TapeAndReel; PartId: 9990; Part Status: Active; Price: 0.12; Series: Automotive, AEC-Q101, SD-C, SPA®; Supplier 1: DigiKey; Supplier Part Number 1: F6446CT-ND; Supplier Device Package: SOD-323; Voltage - Clamping (Max) @ Ipp: 42V
footprint SOD323
pins: 1, 2

## SD24C-7
designator D?
GENERAL PROTECTION PP SOD323; Manufacturer: Diodes Incorporated; Bidirectional Channels: 1; Capacitance @ Frequency: 40pF @ 1MHz (Max); Current - Peak Pulse (10/1000µs): 8A (8/20µs); Power Line Protection: No; Power - Peak Pulse: 350W; Type: Zener; Voltage - Breakdown (Min): 26.7V; Voltage - Clamping (Max) @ Ipp: 45V; Voltage - Reverse Standoff (Typ): 24V (Max); Part Number: SD24C-7; Applications: General Purpose; ComponentLink1Description: Datasheet; ComponentLink1URL: https://www.diodes.com/assets/Datasheets/SD24C.pdf; ComponentLink2Description: DigiKey Link; ComponentLink2URL: http://digikey.com/product-detail/en/diodes-incorporated/SD24C-7/31-SD24C-7CT-ND/10706907; LastUpdated: 9/2/2020 1:28:28 AM; Lifecycle Status: Active; Minimum Order: 1; Mounting Type: Surface Mount; Operating Temperature: -65°C ~ 150°C (TJ); Package / Case: SC-76, SOD-323; Packaging: TapeAndReel; PartId: 9913; Part Status: Active; Price: 0.11; Series: -; Supplier 1: DigiKey; Supplier Part Number 1: 31-SD24C-7CT-ND; Supplier Device Package: SOD-323
footprint SOD323
pins: 1, 2

## SD24C-TP
designator D?
24V,ESD PROTECTION DEVICES,SOD-3; Manufacturer: Micro Commercial Co; Bidirectional Channels: 1; Capacitance @ Frequency: 50pF @ 1MHz (Max); Current - Peak Pulse (10/1000µs): 8A (8/20µs); Power Line Protection: No; Power - Peak Pulse: 350W; Type: Zener; Voltage - Breakdown (Min): 26.7V; Voltage - Clamping (Max) @ Ipp: 62V; Voltage - Reverse Standoff (Typ): 24V (Max); Part Number: SD24C-TP; Applications: General Purpose; ComponentLink1Description: Datasheet; ComponentLink1URL: https://www.mccsemi.com/pdf/Products/SD15C~SD24C(SOD-323)-C.pdf; ComponentLink2Description: DigiKey Link; ComponentLink2URL: http://digikey.com/product-detail/en/micro-commercial-co/SD24C-TP/SD24C-TPMSCT-ND/8554546; LastUpdated: 9/2/2020 1:28:29 AM; Lifecycle Status: Active; Minimum Order: 1; Mounting Type: Surface Mount; Operating Temperature: -55°C ~ 125°C (TJ); Package / Case: SC-76, SOD-323; Packaging: TapeAndReel; PartId: 9977; Part Status: Active; Price: 0.08; Series: -; Supplier 1: DigiKey; Supplier Part Number 1: SD24C-TPMSCT-ND; Supplier Device Package: SOD-323
footprint SOD323
pins: 1, 2

## SD24C.TCT
designator D?
TVS DIODE 24V 44V SOD323; Manufacturer: Semtech Corporation; Bidirectional Channels: 1; Capacitance @ Frequency: 50pF @ 1MHz; Current - Peak Pulse (10/1000µs): 8A (8/20µs); Power Line Protection: No; Power - Peak Pulse: 350W; Type: Zener; Voltage - Breakdown (Min): 26.7V; Voltage - Reverse Standoff (Typ): 24V (Max); Part Number: SD24C.TCT; Applications: General Purpose; ComponentLink1Description: Datasheet; ComponentLink1URL: https://www.semtech.com/uploads/documents/sdxxc.pdf; ComponentLink2Description: DigiKey Link; ComponentLink2URL: http://digikey.com/product-detail/en/semtech-corporation/SD24C.TCT/SD24CCT-ND/1000967; LastUpdated: 9/2/2020 1:28:29 AM; Lifecycle Status: Active; Minimum Order: 1; Mounting Type: Surface Mount; Operating Temperature: -55°C ~ 125°C (TJ); Package / Case: SC-76, SOD-323; Packaging: TapeAndReel; PartId: 9961; Part Status: Active; Price: 0.33; Series: -; Supplier 1: DigiKey; Supplier Part Number 1: SD24CCT-ND; Supplier Device Package: SOD-323; Voltage - Clamping (Max) @ Ipp: 44V
footprint SOD323
pins: 1, 2

## SD36-01FTG
designator D?
TVS DIODE 36V 62V SOD323; Manufacturer: Littelfuse Inc.; Capacitance @ Frequency: 50pF @ 1MHz; Current - Peak Pulse (10/1000µs): 5A (8/20µs); Power Line Protection: No; Power - Peak Pulse: 450W; Type: Zener; Unidirectional Channels: 1; Voltage - Reverse Standoff (Typ): 36V (Max); Part Number: SD36-01FTG; Applications: General Purpose; ComponentLink1Description: Datasheet; ComponentLink1URL: https://www.littelfuse.com/~/media/electronics/datasheets/tvs_diode_arrays/littelfuse_tvs_diode_array_sd_datasheet.pdf.pdf; ComponentLink2Description: DigiKey Link; ComponentLink2URL: http://digikey.com/product-detail/en/littelfuse-inc/SD36-01FTG/F6447CT-ND/5019604; LastUpdated: 9/2/2020 1:28:27 AM; Lifecycle Status: Active; Minimum Order: 1; Mounting Type: Surface Mount; Operating Temperature: -40°C ~ 125°C (TJ); Package / Case: SC-76, SOD-323; Packaging: TapeAndReel; PartId: 9873; Part Status: Active; Price: 0.11; Series: SD, SPA®; Supplier 1: DigiKey; Supplier Part Number 1: F6447CT-ND; Supplier Device Package: SOD-323; Voltage - Clamping (Max) @ Ipp: 62V
footprint SOD323
pins: 1, 2

## SD36C-01FTG
designator D?
TVS DIODE 36V 60V SOD323; Manufacturer: Littelfuse Inc.; Bidirectional Channels: 1; Capacitance @ Frequency: 30pF @ 1MHz; Current - Peak Pulse (10/1000µs): 5A (8/20µs); Power Line Protection: No; Power - Peak Pulse: 450W; Type: Zener; Voltage - Reverse Standoff (Typ): 36V (Max); Part Number: SD36C-01FTG; Applications: Automotive; ComponentLink1Description: Datasheet; ComponentLink1URL: https://www.littelfuse.com/~/media/electronics/datasheets/tvs_diode_arrays/littelfuse_tvs_diode_array_sd_c_datasheet.pdf.pdf; ComponentLink2Description: DigiKey Link; ComponentLink2URL: http://digikey.com/product-detail/en/littelfuse-inc/SD36C-01FTG/F6448CT-ND/5019606; LastUpdated: 9/2/2020 1:28:29 AM; Lifecycle Status: Active; Minimum Order: 1; Mounting Type: Surface Mount; Operating Temperature: -40°C ~ 125°C (TJ); Package / Case: SC-76, SOD-323; Packaging: TapeAndReel; PartId: 9988; Part Status: Active; Price: 0.12; Series: Automotive, AEC-Q101, SD-C, SPA®; Supplier 1: DigiKey; Supplier Part Number 1: F6448CT-ND; Supplier Device Package: SOD-323; Voltage - Clamping (Max) @ Ipp: 60V
footprint SOD323
pins: 1, 2

## SD36C-TP
designator D?
ESDPROTECTIONDEVICESSOD-323; Manufacturer: Micro Commercial Co; Bidirectional Channels: 1; Capacitance @ Frequency: 10pF @ 1MHz; Current - Peak Pulse (10/1000µs): 3A (8/20µs); Power Line Protection: No; Power - Peak Pulse: 240W; Type: Zener; Voltage - Breakdown (Min): 40V; Voltage - Clamping (Max) @ Ipp: 80V; Voltage - Reverse Standoff (Typ): 36V (Max); Part Number: SD36C-TP; Applications: General Purpose; ComponentLink1Description: Datasheet; ComponentLink1URL: https://www.mccsemi.com/pdf/Products/SD36C(SOD-323)-V1.pdf; ComponentLink2Description: DigiKey Link; ComponentLink2URL: http://digikey.com/product-detail/en/micro-commercial-co/SD36C-TP/SD36C-TPMSCT-ND/10054391; LastUpdated: 9/2/2020 1:28:29 AM; Lifecycle Status: Active; Minimum Order: 1; Mounting Type: Surface Mount; Operating Temperature: -55°C ~ 150°C (TJ); Package / Case: SC-76, SOD-323; Packaging: TapeAndReel; PartId: 9981; Part Status: Active; Price: 0.08; Series: -; Supplier 1: DigiKey; Supplier Part Number 1: SD36C-TPMSCT-ND; Supplier Device Package: SOD-323
footprint SOD323
pins: 1, 2

## SD32305TR
designator D?
TVS DIODE 5V 9.8V SOD323; Manufacturer: SMC Diode Solutions; Capacitance @ Frequency: 600pF @ 1MHz; Current - Peak Pulse (10/1000µs): 1A (8/20µs); Power Line Protection: No; Power - Peak Pulse: 300W; Type: Zener; Unidirectional Channels: 1; Voltage - Breakdown (Min): 6V; Voltage - Reverse Standoff (Typ): 5V (Max); Part Number: SD32305TR; Applications: General Purpose; ComponentLink1Description: Datasheet; ComponentLink1URL: http://www.smc-diodes.com/propdf/SD32303%20THRU%20SD32324%20N0428%20REV.B.pdf; ComponentLink2Description: DigiKey Link; ComponentLink2URL: http://digikey.com/product-detail/en/smc-diode-solutions/SD32305TR/1655-1528-1-ND/6022973; LastUpdated: 9/2/2020 1:28:26 AM; Lifecycle Status: Active; Minimum Order: 1; Mounting Type: Surface Mount; Operating Temperature: -55°C ~ 125°C (TJ); Package / Case: SC-76, SOD-323; Packaging: TapeAndReel; PartId: 9844; Part Status: Active; Price: 0.04; Series: -; Supplier 1: DigiKey; Supplier Part Number 1: 1655-1528-1-ND; Supplier Device Package: SOD-323; Voltage - Clamping (Max) @ Ipp: 9.8V
footprint SOD323
pins: 1, 2

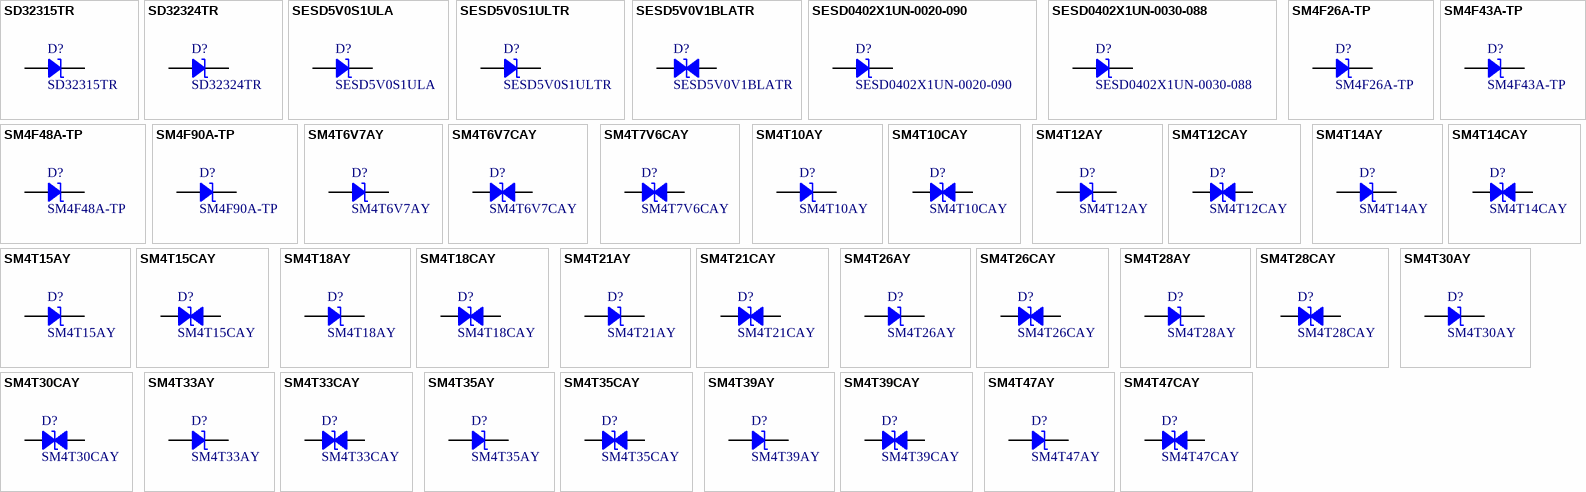
[diagram p40: symbols SD32315TR to SM4T47CAY]